# EAGLE library part FT312D-32L1C-T (library AllAboutEE)
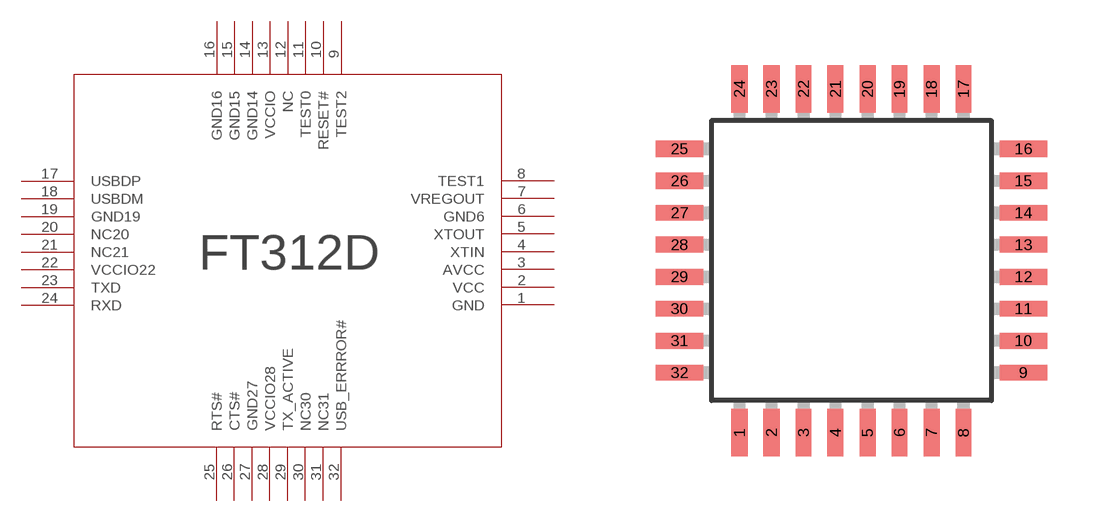
[diagram p10: symbol with the pads of LQFP32-7X7; footprint LQFP32-7X7]

Designator prefix -

## FT312D-32L1C-T  [LQFP32-7X7]
1  GND
2  VCC
3  AVCC
4  XTIN
5  XTOUT
6  GND6
7  VREGOUT
8  TEST1
9  TEST2
10  RESET#
11  TEST0
12  NC
13  VCCIO
14  GND14
15  GND15
16  GND16
17  USBDP
18  USBDM
19  GND19
20  NC20
21  NC21
22  VCCIO22
23  TXD
24  RXD
25  RTS#
26  CTS#
27  GND27
28  VCCIO28
29  TX_ACTIVE
30  NC30
31  NC31
32  USB_ERRROR#

## Footprint LQFP32-7X7 (pad centres in mm)
LQFP-32 package 7x7 mm case, 0.8 mm lead pitch Sourced: Data sheet <http://www.st.com/stonline/products/literature/ds/14771/stm8s105c4.pdf>
smd 0.4 x 1.2: 1 -2.8,-4.3; 2 -2,-4.3; 3 -1.2,-4.3; 4 -0.4,-4.3; 5 0.4,-4.3; 6 1.2,-4.3; 7 2,-4.3; 8 2.8,-4.3; 17 2.8,4.3; 18 2,4.3; 19 1.2,4.3; 20 0.4,4.3; 21 -0.4,4.3; 22 -1.2,4.3; 23 -2,4.3; 24 -2.8,4.3
smd 1.2 x 0.4: 9 4.3,-2.8; 10 4.3,-2; 11 4.3,-1.2; 12 4.3,-0.4; 13 4.3,0.4; 14 4.3,1.2; 15 4.3,2; 16 4.3,2.8; 25 -4.3,2.8; 26 -4.3,2; 27 -4.3,1.2; 28 -4.3,0.4; 29 -4.3,-0.4; 30 -4.3,-1.2; 31 -4.3,-2; 32 -4.3,-2.8